# Altium footprint library LDT-N2804RI_LUM.PcbLib: 1 footprints
Each footprint in its own frame and in the unit in brackets; x right, y up, seen from the top. Pads: shape width x height; smd on the part's side, far side on the other; paste and mask are expansions set on the pad; w line width, h text height; cw(c..) or ccw(c..) is an arc to the next point about the centre after c.
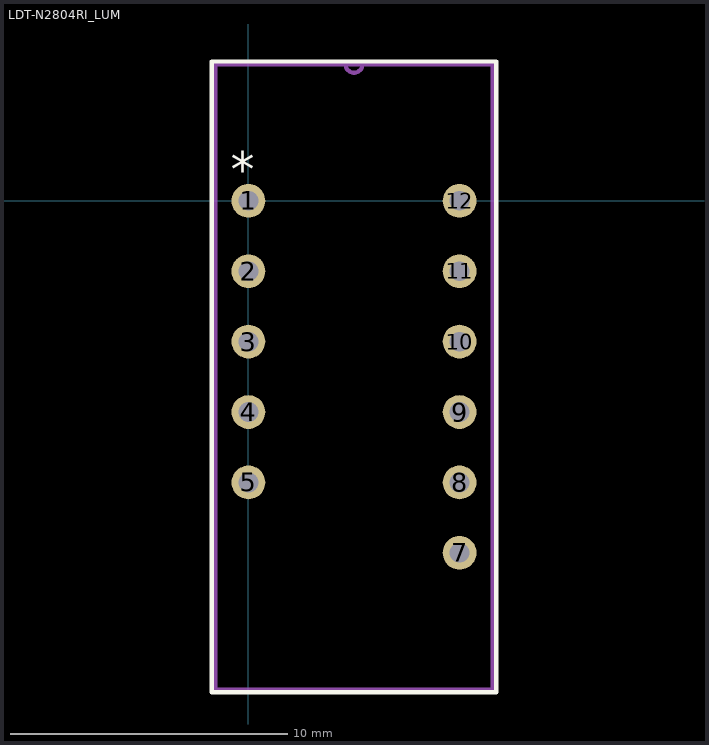
[diagram p0: the footprint, top view; thin cyan lines are the x and y axes]

## LDT-N2804RI_LUM [mil]
pads (11):
  round 48 hole 28: 1(0,0) 2(0,-100) 3(0,-200) 4(0,-300) 5(0,-400) 7(300,-500) 8(300,-400) 9(300,-300) 10(300,-200) 11(300,-100) 12(300,0)
Top Overlay:
  lines w6: -52,-698 -52,198 352,198 352,-698 -52,-698
  text "*" at -25,20 h50
Assembly Top:
  lines w6: 138,194 ccw(c150,194) 162,194 ; 138,194 -47,194 -47,-694 347,-694 347,194 162,194 ; 138,194 162,194
  text "*" at -23,17 h50
3D body "step_temp.STEP": height 240.16, standoff -177.17, extent -46.85,-697.01 346.85,190